# Altium footprint library RelayMachine.PcbLib: 7 footprints
Each footprint in its own frame and in the unit in brackets; x right, y up, seen from the top. Pads: shape width x height; smd on the part's side, far side on the other; paste and mask are expansions set on the pad; w line width, h text height; cw(c..) or ccw(c..) is an arc to the next point about the centre after c.
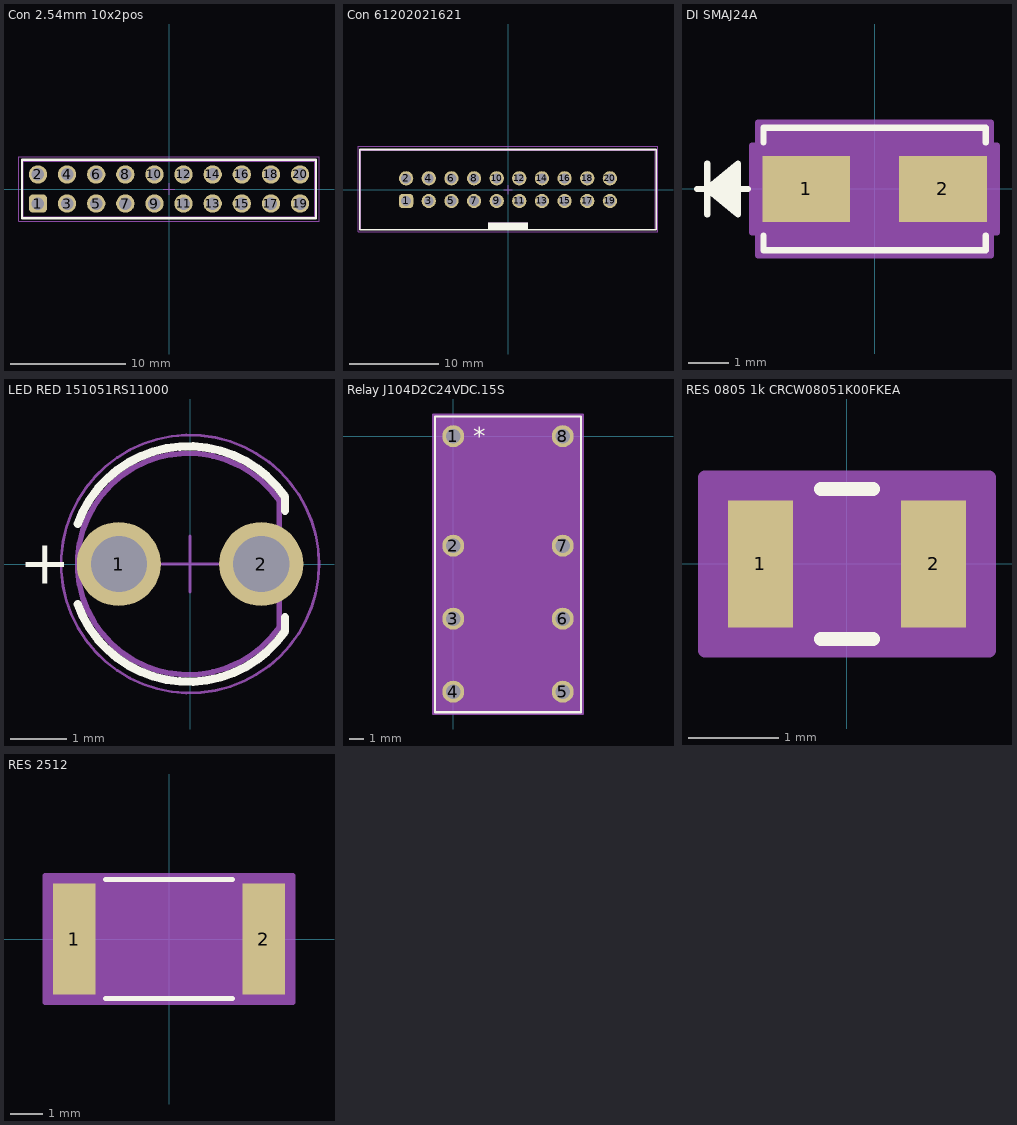
[diagram p0: the footprints below, top view; thin cyan lines are the x and y axes]

## Con 2.54mm 10x2pos [mm]
pads (20):
  rrect50% 1.6x1.6 hole 1.1: 1(-11.43,-1.27)
  round 1.6 hole 1.1: 2(-11.43,1.27) 3(-8.89,-1.27) 4(-8.89,1.27) 5(-6.35,-1.27) 6(-6.35,1.27) 7(-3.81,-1.27) 8(-3.81,1.27) 9(-1.27,-1.27) 10(-1.27,1.27) 11(1.27,-1.27) 12(1.27,1.27) 13(3.81,-1.27) 14(3.81,1.27) 15(6.35,-1.27) 16(6.35,1.27) 17(8.89,-1.27) 18(8.89,1.27) 19(11.43,-1.27) 20(11.43,1.27)
Top Overlay:
  lines w0.2: -12.827,-2.54 -12.827,2.54 12.827,2.54 12.827,-2.54 -12.827,-2.54
Top Courtyard:
  lines w0.05: -13.081,-2.794 -13.081,2.794 13.081,2.794 13.081,-2.794 -13.081,-2.794
Top Component Outline:
  lines w0.1: -12.7,-2.413 -12.7,2.413 12.7,2.413 12.7,-2.413 -12.7,-2.413
Top Component Center:
  lines w0.05: -0.5,0 0.5,0 ; 0,-0.5 0,0.5

## Con 61202021621 [mm]
pads (20):
  rrect50% 1.6x1.6 hole 1.1: 1(-11.43,-1.27)
  round 1.6 hole 1.1: 2(-11.43,1.27) 3(-8.89,-1.27) 4(-8.89,1.27) 5(-6.35,-1.27) 6(-6.35,1.27) 7(-3.81,-1.27) 8(-3.81,1.27) 9(-1.27,-1.27) 10(-1.27,1.27) 11(1.27,-1.27) 12(1.27,1.27) 13(3.81,-1.27) 14(3.81,1.27) 15(6.35,-1.27) 16(6.35,1.27) 17(8.89,-1.27) 18(8.89,1.27) 19(11.43,-1.27) 20(11.43,1.27)
Top Overlay:
  rectangle: -2.25,-4.5 2.25,-3.7
  lines w0.2: -16.63,-4.5 16.63,-4.5 16.63,4.5 -16.63,4.5 -16.63,-4.5
Top 3D Body:
  rectangle: -2.25,-4.425 2.25,-3.7
  lines w0.1: -16.53,-4.425 16.53,-4.425 16.53,4.425 -16.53,4.425 -16.53,-4.425
Top Courtyard:
  lines w0.05: -16.83,-4.7 16.83,-4.7 16.83,4.85 -16.83,4.85 -16.83,-4.7
Top Component Outline:
  rectangle: -2.25,-4.425 2.25,-3.7
  lines w0.1: -16.53,-4.425 -16.53,4.425 16.53,4.425 16.53,-4.425 -16.53,-4.425
Top Component Center:
  lines w0.05: -0.5,0 0.5,0 ; 0,-0.5 0,0.5
3D body "61202021621.stp": height 9.13, standoff -2.98, extent -16.53,-4.171 16.53,5.004

## DI SMAJ24A [mil]
pads (2):
  rect 86x65 smd paste+0 mask+4: 1(-67,0) 2(67,0)
Top Overlay:
  lines w6: -174,0 -124,0 ; -164,-25 -164,25 ; -134,-20 -164,0 ; -134,-15 -164,0 ; -134,-10 -164,0 ; -134,-5 -164,0 ; -134,5 -164,0 ; -134,10 -164,0 ; -134,15 -164,0 ; -134,20 -164,0 ; -109,-45.6 -109,-60 109,-60 109,-45.6 ; -109,45.6 -109,60 109,60 109,45.6 ; -164,0 -134,-25 -134,25 -164,0
Mechanical 13:
  lines w1: -174,0 -124,0 ; -164,-25 -164,25 ; -134,-20 -164,0 ; -134,-15 -164,0 ; -134,-10 -164,0 ; -134,-5 -164,0 ; -134,5 -164,0 ; -134,10 -164,0 ; -134,15 -164,0 ; -134,20 -164,0 ; -164,0 -134,-25 -134,25 -164,0 ; -104,-55 -104,55 104,55 104,-55 -104,-55
Mechanical 15:
  region: -114,-42.5 -120,-42.5 -120,42.5 -114,42.5 -114,65 114,65 114,42.5 120,42.5 120,-42.5 114,-42.5 114,-65 -114,-65
  lines w6: -120,-42.5 -114,-42.5 -114,-65 114,-65 114,-42.5 120,-42.5 120,42.5 114,42.5 114,65 -114,65 -114,42.5 -120,42.5 -120,-42.5
3D body "SMASeries_LTF.step": height 92.01, standoff 0, extent -104.02,-55 104.02,55

## LED RED 151051RS11000 [mm]
pads (2):
  round 1.5 hole 1: 1(-1.27,0) 2(1.27,0)
Top Overlay:
  lines w0.15: -2.003,-0.719 ccw(c-0.03,0) 1.694,-1.199 1.694,-0.95 ; -2.003,0.719 cw(c-0.03,0) 1.694,1.199 1.694,0.95
  text "+" at -3.05,-0.35 h0.8
Top Courtyard:
  circle w0.05: c0,0 r2.3
  lines w0.05: -0.5,0 0.5,0 ; 0,-0.5 0,0.5
Top Component Outline:
  lines w0.1: 1.591,-1.128 cw(c-0.03,0) 1.591,1.128 1.591,-1.128
3D body "15103xxx.stp": height 5.35, standoff -26.35, extent -1.991,-1.974 1.629,1.974

## Relay J104D2C24VDC.15S [mil]
pads (8):
  round 60 hole 40 paste-99999 mask+0: 1(0,0) 2(0,-300) 3(0,-500) 4(0,-700) 5(300,-700) 6(300,-500) 7(300,-300) 8(300,0)
Top Overlay:
  lines w6: -50,-756.18 -50,53.82 350,53.82 350,-756.18 -50,-756.18
  text "*" at 55,-25 h50
Mechanical 13:
  circle w0: c30,0 r3
  lines w0: 138,48.82 ccw(c150,48.82) 162,48.82
  lines w1: -45,-751.18 -45,48.82 345,48.82 345,-751.18 -45,-751.18
Mechanical 15:
  region: 345,-751.18 -45,-751.18 -45,48.82 345,48.82
  region: 355,-761.18 -55,-761.18 -55,58.82 355,58.82
  lines w6: -55,-761.18 355,-761.18 355,58.82 -55,58.82 -55,-761.18
3D body "RELAY8_J104D2C12VDC20S_CRS.step": height 450.12, standoff -300, extent -45,-751.18 345,48.82

## RES 0805 1k CRCW08051K00FKEA [mil]
pads (2):
  rect 28x55 smd paste-27.5 mask+3: 1(-37.5,0) 2(37.5,0)
Top Overlay:
  lines w6: -11.39,-32.5 11.39,-32.5 ; -11.39,32.5 11.39,32.5
Mechanical 13:
  lines w1: -43.5,-27.5 -43.5,27.5 ; -43.5,-27.5 43.5,-27.5 ; -43.5,-27.5 -23.5,-27.5 -23.5,27.5 -43.5,27.5 ; -43.5,-27.5 -43.5,27.5 ; -43.5,27.5 43.5,27.5 ; 43.5,-27.5 43.5,27.5 ; 43.5,-27.5 43.5,27.5 ; 43.5,-27.5 23.5,-27.5 23.5,27.5 43.5,27.5
Mechanical 15:
  region: 61.5,-37.5 -61.5,-37.5 -61.5,37.5 61.5,37.5
  lines w6: -61.5,-37.5 61.5,-37.5 61.5,37.5 -61.5,37.5 -61.5,-37.5
3D body "RES_CRCW_0805.step": height 20, standoff 0, extent -43.5,-27.48 43.5,27.48

## RES 2512 [mil]
pads (2):
  rect 52x136 smd paste+0 mask+3: 1(-116,0) 2(116,0)
Top Overlay:
  lines w6: -77.89,-73 77.89,-73 ; -77.89,73 77.89,73
Mechanical 13:
  lines w1: -128,-68 -128,68 ; -128,-68 128,-68 ; -128,-68 -90,-68 -90,68 -128,68 ; -128,-68 -128,68 ; -128,68 128,68 ; 128,-68 128,68 ; 128,-68 128,68 ; 128,-68 90,-68 90,68 128,68
Mechanical 15:
  region: 152,-78 -152,-78 -152,78 152,78
  lines w6: -152,-78 152,-78 152,78 -152,78 -152,-78
3D body "RES_RMCF2512_STP.step": height 27.99, standoff 0, extent -127.99,-67.99 127.99,67.99